# Altium schematic symbol library 691 382 010 0xx.SchLib: 6 symbols
Pins are listed as number, name and electrical type; pins without a type are passive.

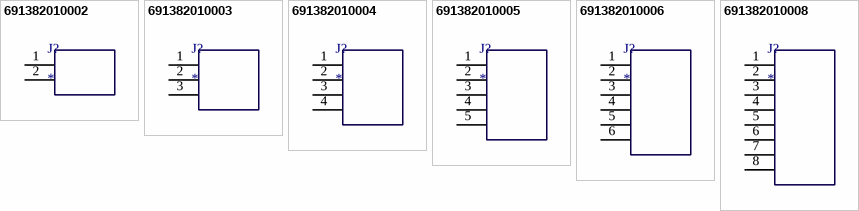
[diagram p0: symbols 691382010002 to 691382010008]

## 691382010002
designator J?
WR-TBL Terminal block - serie 382; Manufacturer: Würth Elektronik eiSos GmbH; partNo: 691382010002; ComponentLink1 Description: Manufacturer; ComponentLink2 Description: Datasheet; ComponentLink1URL: http://www.we-online.de; ComponentLink2URL: http://katalog.we-online.de/em/datasheet/6913820100xx.pdf; Created by: Karrer Zheng; Created Date: 10/9/2014
footprint 691382010002
pins: 1  , 2  

## 691382010003
designator J?
WR-TBL Terminal block - serie 382; Manufacturer: Würth Elektronik eiSos GmbH; partNo: 691382010003; ComponentLink1 Description: Manufacturer; ComponentLink2 Description: Datasheet; ComponentLink1URL: http://www.we-online.de; ComponentLink2URL: http://katalog.we-online.de/em/datasheet/6913820100xx.pdf; Created by: Karrer Zheng; Created Date: 10/9/2014
footprint 691382010003
pins: 1  , 2  , 3  

## 691382010004
designator J?
WR-TBL Terminal block - serie 382; Manufacturer: Würth Elektronik eiSos GmbH; partNo: 691382010004; ComponentLink1 Description: Manufacturer; ComponentLink2 Description: Datasheet; ComponentLink1URL: http://www.we-online.de; ComponentLink2URL: http://katalog.we-online.de/em/datasheet/6913820100xx.pdf; Created by: Karrer Zheng; Created Date: 10/9/2014
footprint 691382010004
pins: 1  , 2  , 3  , 4  

## 691382010005
designator J?
WR-TBL Terminal block - serie 382; Manufacturer: Würth Elektronik eiSos GmbH; partNo: 691382010005; ComponentLink1 Description: Manufacturer; ComponentLink2 Description: Datasheet; ComponentLink1URL: http://www.we-online.de; ComponentLink2URL: http://katalog.we-online.de/em/datasheet/6913820100xx.pdf; Created by: Karrer Zheng; Created Date: 10/9/2014
footprint 691382010005
pins: 1  , 2  , 3  , 4  , 5  

## 691382010006
designator J?
WR-TBL Terminal block - serie 382; Manufacturer: Würth Elektronik eiSos GmbH; partNo: 691382010006; ComponentLink1 Description: Manufacturer; ComponentLink2 Description: Datasheet; ComponentLink1URL: http://www.we-online.de; ComponentLink2URL: http://katalog.we-online.de/em/datasheet/6913820100xx.pdf; Created by: Karrer Zheng; Created Date: 10/9/2014
footprint 691382010006
pins: 1  , 2  , 3  , 4  , 5  , 6  

## 691382010008
designator J?
WR-TBL Terminal block - serie 382; Manufacturer: Würth Elektronik eiSos GmbH; partNo: 691382010008; ComponentLink1 Description: Manufacturer; ComponentLink2 Description: Datasheet; ComponentLink1URL: http://www.we-online.de; ComponentLink2URL: http://katalog.we-online.de/em/datasheet/6913820100xx.pdf; Created by: Karrer Zheng; Created Date: 10/9/2014
footprint 691382010008
pins: 1  , 2  , 3  , 4  , 5  , 6  , 7  , 8  